# EAGLE library part PROGRAMFLASH (library StealthEE v8)
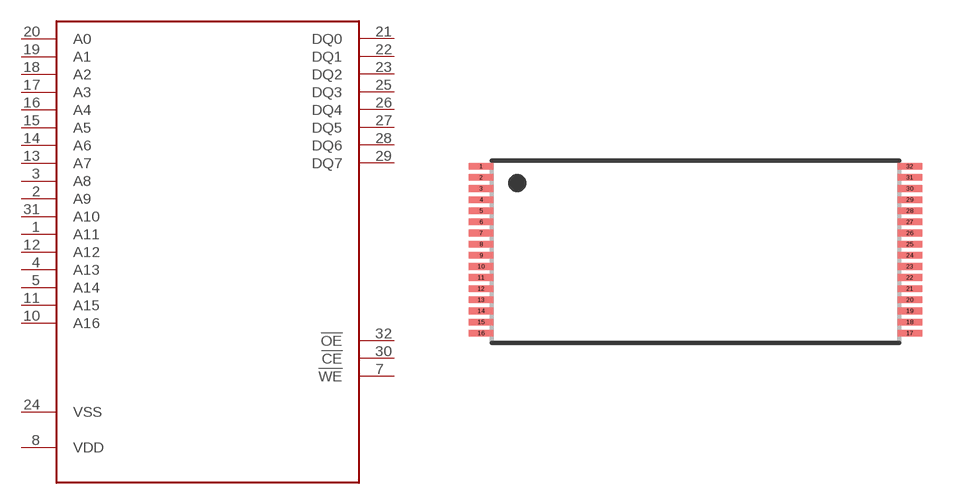
[diagram p2: symbol with the pads of TSOP32; footprint TSOP32]

Designator prefix -

## PROGRAMFLASH  [TSOP32]
1  A11
2  A9
3  A8
4  A13
5  A14
7  !WE
8  VDD
10  A16
11  A15
12  A12
13  A7
14  A6
15  A5
16  A4
17  A3
18  A2
19  A1
20  A0
21  DQ0
22  DQ1
23  DQ2
24  VSS
25  DQ3
26  DQ4
27  DQ5
28  DQ6
29  DQ7
30  !CE
31  A10
32  !OE

## Footprint TSOP32 (pad centres in mm)
48-Lead Thin Small Outline Package (TSOP) 12mm x 20mm SST Package Code: EK Source: http://www.sst.com/dotAsset/40687.pdf
smd 1.1 x 0.3: 1 -9.625,5.75; 2 -9.625,5.25; 3 -9.625,4.75; 4 -9.625,4.25; 5 -9.625,3.75; 6 -9.625,3.25; 7 -9.625,2.75; 8 -9.625,2.25; 9 -9.625,1.75; 10 -9.625,1.25; 11 -9.625,0.75; 12 -9.625,0.25; 13 -9.625,-0.25; 14 -9.625,-0.75; 15 -9.625,-1.25; 16 -9.625,-1.75; 17 9.625,-1.75; 18 9.625,-1.25; 19 9.625,-0.75; 20 9.625,-0.25; 21 9.625,0.25; 22 9.625,0.75; 23 9.625,1.25; 24 9.625,1.75; 25 9.625,2.25; 26 9.625,2.75; 27 9.625,3.25; 28 9.625,3.75; 29 9.625,4.25; 30 9.625,4.75; 31 9.625,5.25; 32 9.625,5.75